# Altium schematic symbol library 网络插座.SchLib: 1 symbol
Pins are listed as number, name and electrical type; pins without a type are passive.

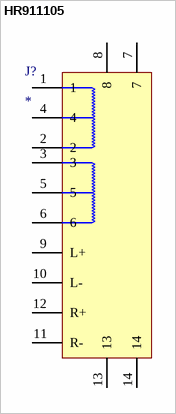
[diagram p0: symbol HR911105]

## HR911105
designator J?
footprint HR911105A
pins: 1, 2, 3, 4, 5, 6, 7, 8, 9 L+, 10 L-, 11 R-, 12 R+, 13, 14